# EAGLE library part IC_MCP4901 (library dp_devices)
8-Bit SPI DAC
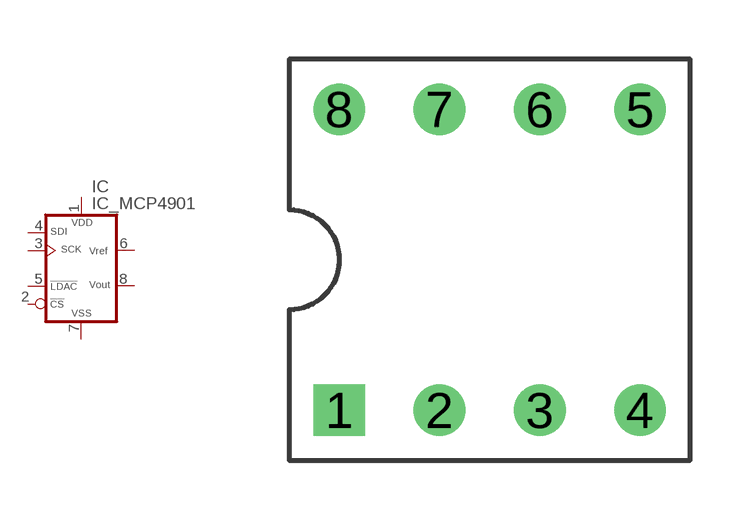
[diagram p134: symbol with the pads of DIP8; footprint DIP8]

Designator prefix IC

## IC_MCP4901-DIP8  [DIP8]
1  VDD  pwr
2  !CS  in
3  SCK  in
4  SDI  in
5  !LDAC  in
6  VREF  in
7  VSS  pwr
8  VOUT  out

## Footprint DIP8 (pad centres in mm)
drill 0.8 square: 1 -3.81,-3.81
drill 0.8 round: 2 -1.27,-3.81; 3 1.27,-3.81; 4 3.81,-3.81; 5 3.81,3.81; 6 1.27,3.81; 7 -1.27,3.81; 8 -3.81,3.81